# Altium schematic symbol library EL.PLAM.T01.SCHLIB: 67 symbols
Pins are listed as number, name and electrical type; pins without a type are passive.

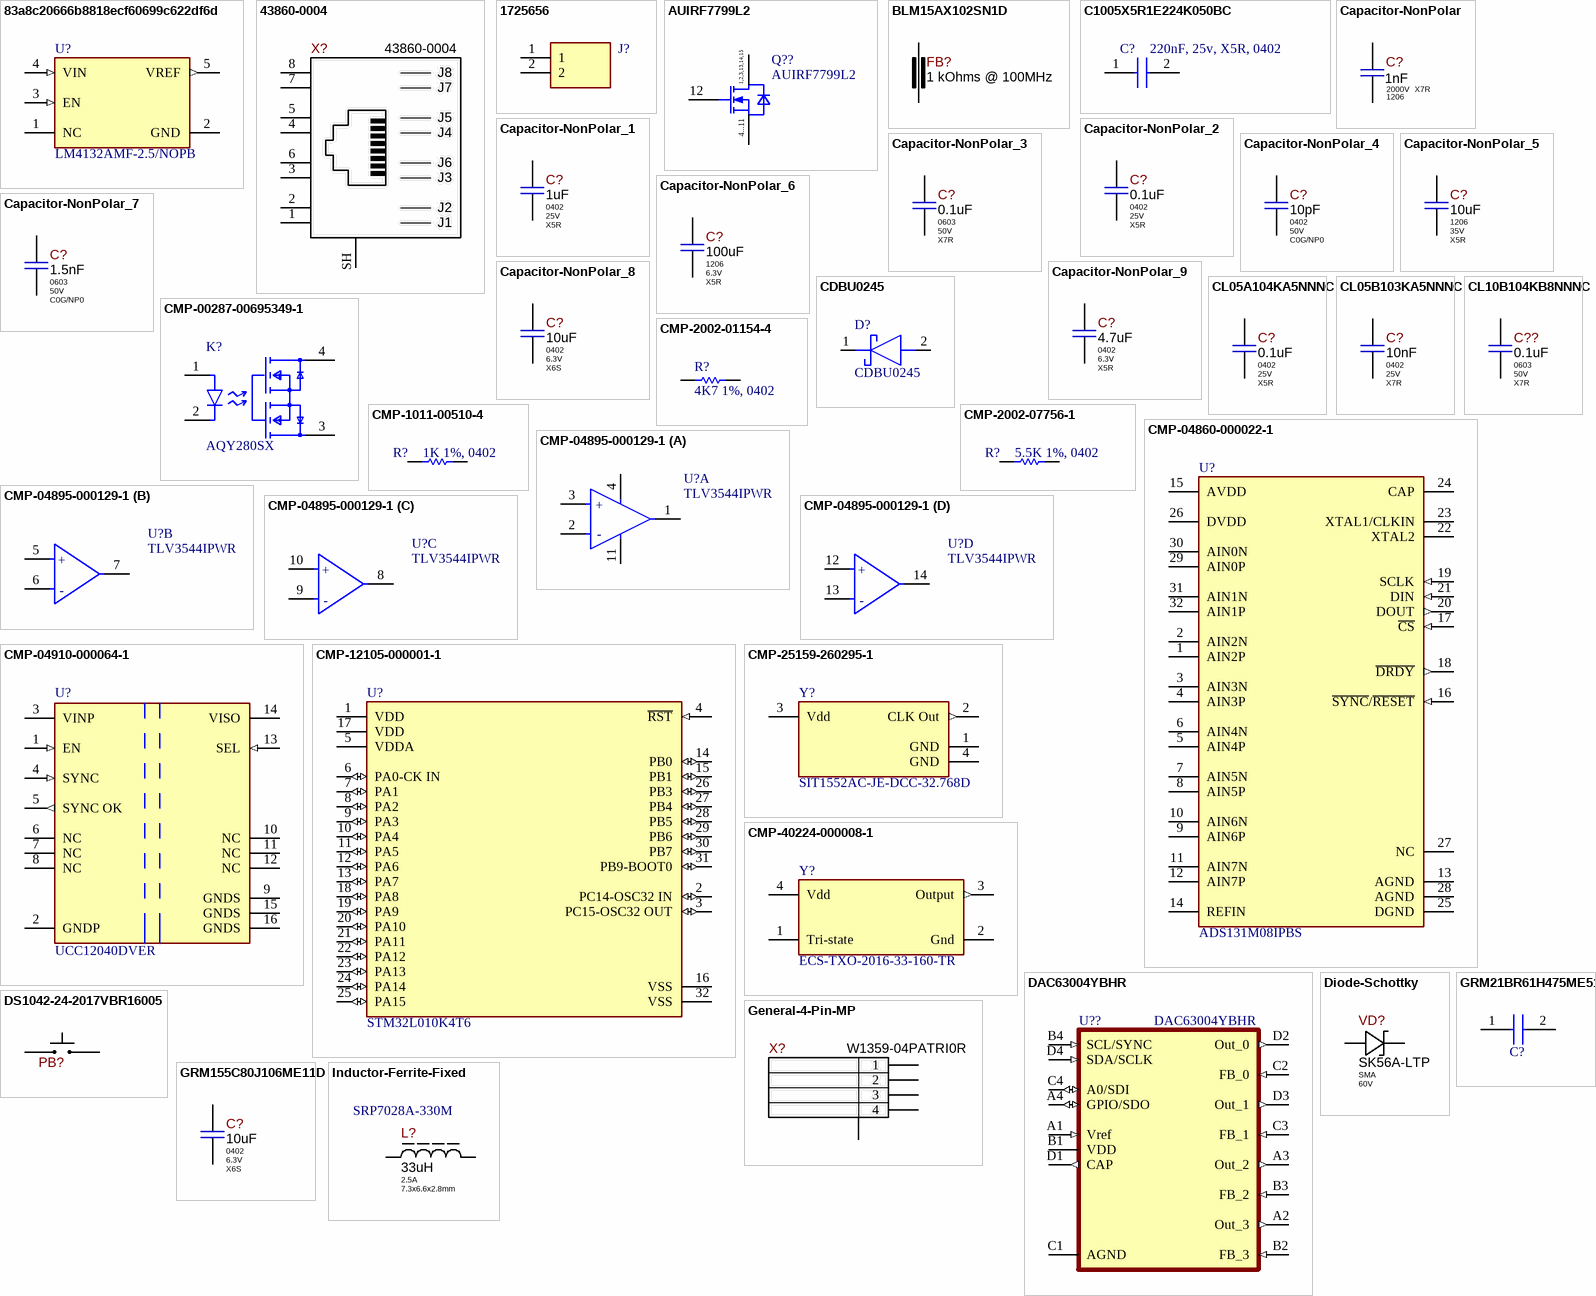
[diagram p0: symbols 83a8c20666b8818ecf60699c622df6d to Inductor-Ferrite-Fixed]

## 83a8c20666b8818ecf60699c622df6d
designator U?, comment LM4132AMF-2.5/NOPB
IC VREF SERIES 0.05% SOT23-5; Quiescent Current: 100uA; Output Current: 20mA; Number of Channels: 1; Temperature Coefficient: 20ppm/°C; Max Input Voltage: 6V; Output Voltage: 2.5V; Max Supply Voltage: 2.2V; Dropout Voltage: 175mV; Supply Current: 60uA; Output Type: Fixed; Length: 2.92mm; Radiation Hardening: No; Reference Type: Series; Mount: Surface Mount; Packaging: Tape and Reel; Width: 1.6mm; Max Operating Temperature: 125°C; Lead Free: Lead Free; Series: -; Number of Pins: 5; REACH SVHC: No SVHC; Max Output Voltage: 2.5V; Package Quantity: 1000; Tolerance: 0.05%; Min Input Voltage: 2.2V; Case/Package: SOT-23; Termination: SMD/SMT; Height: 1.02mm; Min Output Voltage: 2.5V; Reference Voltage: 2.5V; Max Output Current: 20mA; Nominal Supply Current: 60uA; Min Operating Temperature: -40°C; Operating Supply Current: 100uA
footprint FP-DBV0005A-IPC_C
footprint FP-DBV0005A-MFG
footprint FP-DBV0005A-IPC_B
footprint FP-DBV0005A-IPC_A
pins: 1 NC, 2 GND (power), 3 EN (in), 4 VIN (in), 5 VREF (out)

## 43860-0004
designator X?
RJ45 8P8C Shielded Cat 3 10 Base-T Connector; Manufacturer: Molex; Component Status: Released; Replacement: NONE; Part Number: 43860-0004; Part Type: RJ-45; Component Type: PTH; Temperature Range: -40°C ~ 85°C; ComponentLink1URL: https://www.molex.com/pdm_docs/sd/438600004_sd.pdf; Supplier 1: Mouser; Supplier Part Number 1: 538-43860-0004; Price: 2.1435; ComponentLink1Description: Datasheet
footprint 43860-0004
pins: 1 TD4-, 2 TD4+, 3 TD3-, 4 TD3+, 5 CT, 6 CT, 7 TD2-, 8 TD2+, SH Shield
text: J8; J7; J5; J4; J6; J3; J2; J1

## 1725656
designator J?  (value not drawn)
Connector; Manufacturer_Name: Phoenix Contact; Datasheet Link: https://www.phoenixcontact.com/online/portal/us/?uri=pxc-oc-itemdetail:pid=1725656&library=usen&pcck=P-11-01-05&tab=1&selectedCategory=ALL; Height: 8.65mm; Manufacturer_Part_Number: 1725656; Mouser Part Number: 651-1725656; Mouser Price/Stock: https://www.mouser.co.uk/ProductDetail/Phoenix-Contact/1725656?qs=Ul7CXFMnlWWQeccayYbRmw%3D%3D; Arrow Part Number: 1725656; Arrow Price/Stock: https://www.arrow.com/en/products/1725656/phoenix-contact?utm_currency=USD&region=nac
footprint 1725656
pins: 1, 2

## AUIRF7799L2
designator Q??
Insulated-Gate Field-Effect Transistor (IGFET), N-Channel / MOSFETs DirectFET 2 250V 35A 38mOhm Automotive; Part Number: AUIRF7799L2TR; Manufacturer: Infineon; Rds On: 32 mOhm; Qg: 110 nC; Vgs: - 30 V, + 30 V; Vgs th: 4 V; Pd: 125; Max T: 175 C; Turn-On Delay: 36.3 ns; Turn-Off Delay: 73.9 ns; ComponentLink1Description: Datasheet; ComponentLink1URL: https://eu.mouser.com/datasheet/2/196/auirf7799l2-1730908.pdf; Supplier 1: Mouser; Supplier Part Number 1: 942-AUIRF7799L2TR; Product Category: MOSFETs; Transistor Polarity: N-Channel; Mounting Style: SMD/SMT; Package/Case: DirectFET-L8; Vds: 250V; Id: 35A
footprint DIRECTFET-L8-V
pins: 1 DRAIN1, 2 DRAIN2, 3 DRAIN3, 4 SOURCE1, 5 SOURCE2, 6 SOURCE3, 7 SOURCE4, 8 SOURCE5, 9 SOURCE6, 10 SOURCE7, 11 SOURCE8, 12 GATE, 13 DRAIN4, 14 DRAIN5, 15 DRAIN6
text: 1,2,3,13,14,15; 4...11

## BLM15AX102SN1D
designator FB?  value 1 kOhms @ 100MHz  (hidden comment: BLM15AX102SN1D)
1 kOhms @ 100MHz Ferrite Bead 0402, 350mA 490mOhm; Manufacturer: Murata Electronics; Current: 0.35A; Saturation Current: NONE; Tolerance: ±25%; Standard Lead Time: 7 Weeks; Component Status: Released; Package: 0402; Part Number: BLM15AX102SN1D; Part Type: Ferrite Bead; Component Type: SMD; Temperature Range: -55°C ~ 125°C; ComponentLink1URL: https://www.murata.com/en-us/products/productdata/8796740059166/ENFA0018.pdf; Supplier 1: Digi-Key; Supplier Part Number 1: 490-5442-2-ND; Replacement: NONE; Price: 0.00265; ComponentLink1Description: Datasheet
footprint BLM15xxxxxSN1x_MED
footprint BLM15xxxxxSN1x_HI
pins: 1, 2

## C1005X5R1E224K050BC
designator C?, comment 220nF, 25v, X5R, 0402
Capacitor; Manufacturer_Name: TDK; Manufacturer_Part_Number: C1005X5R1E224K050BC; Datasheet Link: https://product.tdk.com/info/en/catalog/datasheets/mlcc_commercial_midvoltage_en.pdf; Height: 0.55mm; Mouser Part Number: 810-C1005X5R1E224K; Mouser Price/Stock: https://www.mouser.co.uk/ProductDetail/TDK/C1005X5R1E224K050BC?qs=dfay7wIA1uF%2FadsrSwyIjA%3D%3D; Arrow Part Number: C1005X5R1E224K050BC; Arrow Price/Stock: https://www.arrow.com/en/products/c1005x5r1e224k050bc/tdk?region=nac
footprint CAPC1005X55N
pins: 1, 2

## Capacitor-NonPolar
designator C?, comment Package: 1206  Voltage: 2000V  Dielectric Type: X7R  (hidden comment: 1nF)
1nF 2000V X7R ±10% 1206 Ceramic Capacitor RoHS; Part Number: CC1206KKX7RDBB102; Manufacturer: Yageo; Replacement: NONE; Value: 1nF; Part Type: Ceramic / X7R / 1206; Component Type: SMD; Temperature Range: -55°C ~ 125°C; Tolerance: ±10%; ComponentLink1URL: https://www.yageo.com/upload/media/product/products/datasheet/mlcc/UPY-NP0X7R_HV_1KV-to-3KV_11.pdf; Supplier 1: Digi-Key; Supplier Part Number 1: 311-1487-2-ND; ComponentLink1Description: Datasheet
footprint CAP-1206(3216)X125T20
pins: 1, 2

## Capacitor-NonPolar_1
designator C?, comment Package: 0402  Voltage: 25V  Dielectric Type: X5R  (hidden comment: 1uF)
1uF 25V Х5R ±10% 0402 Ceramic Capacitor RoHS; Part Number: GRM155R61E105KA12D; Manufacturer: Murata Electronics; Standard Lead Time: 15 Weeks; Component Status: Released; Replacement: NONE; Value: 1uF; Part Type: Ceramic / X5R / 0402; Component Type: SMD; Temperature Range: -55°C ~ 85°C; Tolerance: ±10%; ComponentLink1URL: https://search.murata.co.jp/Ceramy/image/img/A01X/G101/ENG/GRM155R61E105KA12-01.pdf; Supplier 1: Digi-Key; Supplier Part Number 1: 490-10017-1-ND; Price: 0.0033; ComponentLink1Description: Datasheet
footprint C_CERAMIC_0402_MED
footprint C_CERAMIC_0402_HI
pins: 1, 2

## Capacitor-NonPolar_2
designator C?, comment Package: 0402  Voltage: 25V  Dielectric Type: X5R  (hidden comment: 0.1uF)
100nF 25V X5R ±10% 0402 Ceramic Capacitor RoHS; Part Number: CL05A104KA5NNNC; Manufacturer: Samsung Electro-Mechanics; Ajax_1C_ID: 27170; Ajax_1C_PN: 100nF 25V X5R 10% 0402 CL05A104KA5NNNC Ceramic Capacitor SMD RoHS; Standard Lead Time: 38 Weeks; Replacement: NONE; Ajax_1С_Status: Mass Production; Component Status: Released; GUID_1C: 6c9121f0-7733-11eb-ab70-0050569f2651; Value: 0.1uF; Part Type: Ceramic / X5R / 0402; Component Type: SMD; Temperature Range: -55°C ~ 85°C; Tolerance: ±10%; ComponentLink1URL: https://eu.mouser.com/datasheet/2/585/MLCC-1837944.pdf; Supplier 1: Mouser; Supplier Part Number 1: 187-CL05A104KA5NNNC; ComponentLink1Description: Datasheet; Price: 0.0013
footprint C_CERAMIC_0402_MED
footprint C_CERAMIC_0402_HI
pins: 1, 2

## Capacitor-NonPolar_3
designator C?, comment Package: 0603  Voltage: 50V  Dielectric Type: X7R  (hidden comment: 0.1uF)
100nF 50V X7R ±10% 0603 Ceramic Capacitor RoHS; Part Number: CL10B104KB8NNNC; Manufacturer: Samsung Electro-Mechanics; Standard Lead Time: 18 Weeks; Replacement: CL10B104KB8NNND; Component Status: Released; Value: 0.1uF; Part Type: Ceramic / X7R / 0603; Component Type: SMD; Temperature Range: -55°C ~ 125°C; Tolerance: ±10%; ComponentLink1URL: https://media.digikey.com/pdf/Data%20Sheets/Samsung%20PDFs/CL_Series_MLCC_ds.pdf; Supplier 1: Digi-Key; Supplier Part Number 1: 1276-1000-2-ND; ComponentLink1Description: Datasheet; Price: 0.00273
footprint C_CERAMIC_0603_MED
footprint C_CERAMIC_0603_HI
pins: 1, 2

## Capacitor-NonPolar_4
designator C?, comment Package: 0402  Voltage: 50V  Dielectric Type: C0G/NP0  (hidden comment: 10pF)
10pF 50V C0G ±5% 0402 Ceramic Capacitor RoHS; Part Number: CL05C100JB5NNNC; Manufacturer: Samsung Electro-Mechanics; Standard Lead Time: 28 Weeks; Replacement: NONE; Component Status: Released; Value: 10pF; Part Type: Ceramic / C0G(NP0) / 0402; Component Type: SMD; Temperature Range: -55°C ~ 125°C; Tolerance: ±5%; ComponentLink1URL: https://media.digikey.com/pdf/Data%20Sheets/Samsung%20PDFs/CL_Series_MLCC_ds.pdf; Supplier 1: Digi-Key; Supplier Part Number 1: 1276-1139-2-ND; ComponentLink1Description: Datasheet; Price: 0.00145
footprint C_CERAMIC_0402_MED
footprint C_CERAMIC_0402_HI
pins: 1, 2

## Capacitor-NonPolar_5
designator C?, comment Package: 1206  Voltage: 35V  Dielectric Type: X5R  (hidden comment: 10uF)
10uF 35V X5R ±10% 1206 Ceramic Capacitor RoHS; Part Number: GRM319R6YA106KA12D; Manufacturer: Murata Electronics; Standard Lead Time: NONE; Component Status: Released; Value: 10uF; Part Type: Ceramic / X5R / 1206; Component Type: SMD; Temperature Range: -55°C ~ 85°C; Tolerance: ±10%; ComponentLink1URL: https://search.murata.co.jp/Ceramy/image/img/A01X/G101/ENG/GRM319R6YA106KA12-01.pdf; Supplier 1: Digi-Key; Supplier Part Number 1: 490-9964-1-ND; Replacement: NONE; ComponentLink1Description: Datasheet; Price: 0.03648
footprint CAP-1206(3216)X85T15
pins: 1, 2

## Capacitor-NonPolar_6
designator C?, comment Package: 1206  Voltage: 6.3V  Dielectric Type: X5R  (hidden comment: 100uF)
100uF 6.3V X5R ±20% 1206 Ceramic Capacitor RoHS; Part Number: CL31A107MQHNNNE; Manufacturer: Samsung Electro-Mechanics; Standard Lead Time: 22 Weeks; Replacement: NONE; Component Status: Released; Value: 100uF; Part Type: Ceramic / X5R / 1206; Component Type: SMD; Temperature Range: -55°C ~ 85°C; Tolerance: ±20%; ComponentLink1URL: https://media.digikey.com/pdf/Data%20Sheets/Samsung%20PDFs/CL_Series_MLCC_ds.pdf; Supplier 1: Digi-Key; Supplier Part Number 1: 1276-1782-2-ND; ComponentLink1Description: Datasheet; Price: 0,05600243
footprint C_CERAMIC_1206_MED
footprint C_CERAMIC_1206_HI
pins: 1, 2

## Capacitor-NonPolar_7
designator C?, comment Package: 0603  Voltage: 50V  Dielectric Type: C0G/NP0  (hidden comment: 1.5nF)
1.5nF 50V C0G(NP0) ±5% 0603 Ceramic Capacitor RoHS; Part Number: GRM1885C1H152JA01D; Manufacturer: Murata Electronics; Standard Lead Time: 22 Weeks; Component Status: Released; Replacement: NONE; Value: 1.5nF; Part Type: Ceramic / C0G(NP0) / 0603; Component Type: SMD; Temperature Range: -55°C ~ 125°C; Tolerance: ±5%; ComponentLink1URL: https://eu.mouser.com/datasheet/2/281/1/GRM1885C1H152JA01_01A-1984714.pdf; Supplier 1: Mouser; Supplier Part Number 1: 81-GRM1885C1H152JA01; Price: 0.00446; ComponentLink1Description: Datasheet
footprint C_CERAMIC_0603_MED
footprint C_CERAMIC_0603_HI
pins: 1, 2

## Capacitor-NonPolar_8
designator C?, comment Package: 0402  Voltage: 6.3V  Dielectric Type: X6S  (hidden comment: 10uF)
10uF 6.3V X6S ±20% 0402 Ceramic Capacitor RoHS; Part Number: GRM155C80J106ME11D; Manufacturer: Murata Electronics; Component Status: Released; Standard Lead Time: 15 Weeks; Replacement: NONE; Value: 10uF; Part Type: Ceramic / X6S / 0402; Component Type: SMD; Temperature Range: -55°C ~ 105°C; Tolerance: ±20%; ComponentLink1URL: https://search.murata.co.jp/Ceramy/image/img/A01X/G101/ENG/GRM155C80J106ME11-01.pdf; Supplier 1: Digi-Key; Supplier Part Number 1: 490-13233-1-ND; Price: 0.01104; ComponentLink1Description: Datasheet
footprint C_CERAMIC_0402_MED
footprint C_CERAMIC_0402_HI
pins: 1, 2

## Capacitor-NonPolar_9
designator C?, comment Package: 0402  Voltage: 6.3V  Dielectric Type: X5R  (hidden comment: 4.7uF)
4.7uF 6.3V X5R ±20% 0402 Ceramic Capacitor RoHS; Part Number: GRM155R60J475ME47; Manufacturer: Murata Electronics; Component Status: Released; Standard Lead Time: 15 Weeks; Replacement: CC0402MRX5R5BB475; Value: 4.7uF; Part Type: Ceramic / X5R / 0402; Component Type: SMD; Temperature Range: -55°C ~ 85°C; Tolerance: ±20%; ComponentLink1URL: https://search.murata.co.jp/Ceramy/image/img/A01X/G101/ENG/GRM155R60J475ME47-01.pdf; Supplier 1: Digi-Key; Supplier Part Number 1: 490-5915-2-ND; Price: 0.013; ComponentLink1Description: Datasheet
footprint C_CERAMIC_0402_MED
footprint C_CERAMIC_0402_HI
pins: 1, 2

## CDBU0245
designator D?
Schottky Diode; Manufacturer_Name: Comchip Technology; Datasheet Link: https://componentsearchengine.com/Datasheets/1/CDBU0245.pdf; Height: 0.85mm; Manufacturer_Part_Number: CDBU0245; Mouser Part Number: 750-CDBU0245; Mouser Price/Stock: https://www.mouser.co.uk/ProductDetail/Comchip-Technology/CDBU0245?qs=tw%252BuQ%2FB6PO2XscGM2Q%2FbYQ%3D%3D; Arrow Part Number: CDBU0245; Arrow Price/Stock: https://www.arrow.com/en/products/cdbu0245/comchip-technology?utm_currency=USD&region=nac
footprint DIOC1709X85N
pins: 1 K, 2 A

## CL05A104KA5NNNC
designator C?, comment Package: 0402  Voltage: 25V  Dielectric Type: X5R  (hidden comment: 0.1uF)
100nF 25V X5R ±10% 0402 Ceramic Capacitor RoHS; Part Number: CL05A104KA5NNNC; Manufacturer: Samsung Electro-Mechanics; Standard Lead Time: 38 Weeks; Replacement: NONE; Component Status: Released; Value: 0.1uF; Part Type: Ceramic / X5R / 0402; Component Type: SMD; Temperature Range: -55°C ~ 85°C; Tolerance: ±10%; ComponentLink1URL: https://eu.mouser.com/datasheet/2/585/MLCC-1837944.pdf; Supplier 1: Mouser; Supplier Part Number 1: 187-CL05A104KA5NNNC; ComponentLink1Description: Datasheet; Price: 0.0013
footprint C_CERAMIC_0402_MED
footprint C_CERAMIC_0402_HI
pins: 1, 2

## CL05B103KA5NNNC
designator C?, comment Package: 0402  Voltage: 25V  Dielectric Type: X7R  (hidden comment: 10nF)
10nF 25V X7R ±10% 0402 Ceramic Capacitor RoHS; Part Number: CL05B103KA5NNNC; Manufacturer: Samsung Electro-Mechanics; Component Status: Released; Standard Lead Time: 28 Weeks; Replacement: NONE; Value: 10nF; Part Type: Ceramic / X7R / 0402; Component Type: SMD; Temperature Range: -55°C ~ 125°C; Tolerance: ±10%; ComponentLink1URL: https://eu.mouser.com/datasheet/2/585/MLCC-1837944.pdf; Supplier 1: Mouser; Supplier Part Number 1: 187-CL05B103KA5NNNC; Price: 0.00145; ComponentLink1Description: Datasheet
footprint C_CERAMIC_0402_MED
footprint C_CERAMIC_0402_HI
pins: 1, 2

## CL10B104KB8NNNC
designator C??, comment Package: 0603  Voltage: 50V  Dielectric Type: X7R  (hidden comment: 0.1uF)
100nF 50V X7R ±10% 0603 Ceramic Capacitor RoHS; Part Number: CL10B104KB8NNNC; Manufacturer: Samsung Electro-Mechanics; Standard Lead Time: 18 Weeks; Replacement: CL10B104KB8NNND; Component Status: Released; Part Type: Ceramic / X7R / 0603; Component Type: SMD; Temperature Range: -55°C ~ 125°C; Tolerance: ±10%; ComponentLink1URL: https://media.digikey.com/pdf/Data%20Sheets/Samsung%20PDFs/CL_Series_MLCC_ds.pdf; Supplier 1: Digi-Key; Supplier Part Number 1: 1276-1000-2-ND; ComponentLink1Description: Datasheet; Price: 0.00273; Value: 0.1uF
footprint C_CERAMIC_0603_MED
footprint C_CERAMIC_0603_HI
pins: 1, 2

## CMP-00287-00695349-1
designator K?, comment AQY280SX
AQY280SX AQY Photomos Series 120 mA 350 V 25 Ohm SMT 1 Channel Solid State Relay -SOP-4; NexarPartId: 695349; Output Current: 120mA; Throw Configuration: DPST, SPST; Resistance: 25Ω; Max Input Current: 50mA; Max Output Voltage: 350V; Isolation Voltage: 1.5kV; Termination: Gull Wing; Number of Pins: 4; Max Output Current: 120mA; RoHS: Compliant; Mount: Surface Mount; Radiation Hardening: No; Max Operating Temperature: 85°C; Height: 2.1mm; Case/Package: SOP; Forward Current: 50mA; Input Current: 50mA; Lead Free: Lead Free; Length: 4.4mm; Width: 4.3mm; Min Operating Temperature: -40°C; Output Voltage: 350V; Relay Type: Relay; Load Current: 120mA; Part Number: AQY280SX; Supplier 1: Mouser; Supplier Part Number 1: 769-AQY280SX
footprint FP-AQY280SX-MFG (AQY Photomos Series 120 mA 350 V 25 Ohm SMT 1 Channel Solid State Relay -SOP-4)
pins: 1 A, 2 C, 3 1 DRAIN, 4 2 DRAIN

## CMP-1011-00510-4
designator R?, comment 1K 1%, 0402
Chip Resistor, 1 KOhm, +/- 1%, 100 mW, -55 to 155 degC, 0402 (1005 Metric), RoHS, Tape and Reel; PartNumber: ERJ-2RKF1001X; Manufacturer: Basic Passives; Voltage Rating: 50 V; Case\/Package: 0402; Resistance: 1 KOhm; Power Rating: 100 mW; DatasheetVersion: 04/2015; Radiation Hardening: No; Pins: 2; Height: 0.35 mm; RoHSCompliant: true; Case Code (Imperial): 0402; ComponentLink2Description: Datasheet; ComponentLink1Description: Manufacturer URL; PackageReference: 0402; Mount: Surface Mount; Package Quantity: 10000; Tolerance: 1%; ComponentLink1URL: http://www.panasonic.com/; PackageDescription: 2-Pin Surface Mount Device, Body 1 x 0.5 mm; Mounting Technology: Surface Mount; Case Code (Metric): 1005; ComponentLink2URL: http://industrial.panasonic.com/cdbs/www-data/pdf/RDA0000/AOA0000C86.pdf; REACH SVHC: Yes; Packaging: Tape and Reel; Max Operating Temperature: 155 degC; Min Operating Temperature: -55 degC; Width: 0.5 mm; Length: 1 mm
footprint RESC1005X40X25NL05T05 (Chip Resistor, 2-Leads, Body 1.05x0.55mm, IPC Medium Density)
footprint RESC1005X40X25LL05T05 (Chip Resistor, 2-Leads, Body 1.05x0.55mm, IPC High Density)
footprint RESC1005X40X25ML05T05 (Chip Resistor, 2-Leads, Body 1.05x0.55mm, IPC Low Density)
pins: 1, 2

## CMP-2002-01154-4
designator R?, comment 4K7 1%, 0402
Chip Resistor, 4.7 KOhm, +/- 1%, 0.1 W, -55 to 155 degC, 0402 (1005 Metric), RoHS, Tape and Reel; PartNumber: ERJ-2RKF4701X; Voltage Rating: 50 V; Case\/Package: 0402; Power Rating: 100 mW; Height: 0.35 mm; Mounting Technology: Surface Mount; REACH SVHC: Yes; Resistance: 4.7 KOhm; Max Operating Temperature: 155 degC; ComponentLink1Description: Manufacturer URL; ComponentLink2Description: Datasheet; Pins: 2; PackageReference: 0402; Tolerance: 1%; Case Code (Imperial): 0402; Length: 1 mm; PackageDescription: 2-Pin Surface Mount Device, Body 1 x 0.5 mm; RoHSCompliant: true; Package Quantity: 1; Radiation Hardening: No; DatasheetVersion: 04/2015; Width: 0.5 mm; Case Code (Metric): 1005; Mount: Surface Mount; ComponentLink1URL: http://www.panasonic.com/; Min Operating Temperature: -55 degC; Packaging: Cut Tape; ComponentLink2URL: http://industrial.panasonic.com/cdbs/www-data/pdf/RDA0000/AOA0000C86.pdf
footprint RESC1005X40X25LL05T05 (Chip Resistor, 2-Leads, Body 1.05x0.55mm, IPC High Density)
footprint RESC1005X40X25ML05T05 (Chip Resistor, 2-Leads, Body 1.05x0.55mm, IPC Low Density)
footprint RESC1005X40X25NL05T05 (Chip Resistor, 2-Leads, Body 1.05x0.55mm, IPC Medium Density)
pins: 1, 2

## CMP-2002-07756-1
designator R?, comment 5.5K 1%, 0402
Part Number: RC0402FR-075K6L; Manufacturer: Yageo / Phycomp
footprint RESC1005X40X25LL05T10 (Chip Resistor, 2-Leads, Body 1.00x0.50mm, IPC High Density)
footprint RESC1005X40X25ML05T10 (Chip Resistor, 2-Leads, Body 1.00x0.50mm, IPC Low Density)
footprint RESC1005X40X25NL05T10 (Chip Resistor, 2-Leads, Body 1.00x0.50mm, IPC Medium Density)
pins: 1, 2
1 alternate drawing of the same symbol

## CMP-04860-000022-1
designator U?, comment ADS131M08IPBS
8 CHANNEL 24 BIT SIMULTANEOUS SA
footprint FP-PBS0032A-MFG
footprint FP-PBS0032A-IPC_C
footprint FP-PBS0032A-IPC_A
footprint FP-PBS0032A-IPC_B
pins: 1 AIN2P, 2 AIN2N, 3 AIN3N, 4 AIN3P, 5 AIN4P, 6 AIN4N, 7 AIN5N, 8 AIN5P, 9 AIN6P, 10 AIN6N, 11 AIN7N, 12 AIN7P, 13 AGND (power), 14 REFIN, 15 AVDD (power), 16 ~{SYNC}/~{RESET} (in), 17 ~{CS} (in), 18 ~{DRDY} (out), 19 SCLK (in), 20 DOUT (out), 21 DIN (in), 22 XTAL2, 23 XTAL1/CLKIN, 24 CAP, 25 DGND (power), 26 DVDD (power), 27 NC, 28 AGND (power), 29 AIN0P, 30 AIN0N, 31 AIN1N, 32 AIN1P

## CMP-04895-000129-1
designator U?, comment TLV3544IPWR
IC CMOS 4 CIRCUIT 14TSSOP; Output Current per Channel: 100mA; Input Offset Voltage (Vos): 2mV; -3db Bandwidth: 200MHz; Number of Circuits: 4; Operating Supply Current: 5.2mA; Input Bias Current: 3pA; Gain Bandwidth Product: 100MHz; Slew Rate: 150V/µs; Number of Channels: 4; Max Operating Temperature: 125°C; Min Operating Temperature: -40°C; RoHS Compliant: Yes; Number of Pins: 14; Case/Package: TSSOP; Mount: Surface Mount; Packaging: Cut Tape
footprint FP-PW0014A-IPC_B
footprint FP-PW0014A-IPC_A
footprint FP-PW0014A-IPC_C
footprint FP-PW0014A-MFG
part A pins: 1 OUT A, 2 -IN A (hiz), 3 +IN A (hiz), 4 V+ (power), 11 V- (power)
part B pins: 5 +IN B (hiz), 6 -IN B (hiz), 7 OUT B
part C pins: 8 OUT C, 9 -IN C (hiz), 10 +IN C (hiz)
part D pins: 12 +IN D (hiz), 13 -IN D (hiz), 14 OUT D
part A text: +; -
part B text: +; -
part C text: +; -
part D text: +; -

## CMP-04910-000064-1
designator U?, comment UCC12040DVER
DC DC CONVERTER 5V 500mW; Number of Outputs: 1; Input Voltage - Min: 4.5V; Input Voltage - Max: 5.5V; Isolation Voltage: 3 kV; Unit Weight: 5 g; Part Number: UCC12040DVER; Supplier 1: Mouser; Supplier Part Number 1: 595-UCC12040DVER; Mounting Style: SMD/SMT; ComponentLink1Description: Datasheet; ComponentLink1URL: https://www.ti.com/lit/ds/symlink/ucc12040.pdf?ts=1755529908774&ref_url=https%253A%252F%252Fwww.ti.com%252Fproduct%252FUCC12040; Output Power: 500 mW; Input Voltage, Nominal: 5V; Package/Case: SOIC-16; Product Type: Isolated DC-DC Converters; Subcategory: DC-DC Converters
footprint FP-DVE0016A-MFG
footprint FP-DVE0016A-IPC_C
footprint FP-DVE0016A-IPC_B
footprint FP-DVE0016A-IPC_A
pins: 1 EN (in), 2 GNDP (power), 3 VINP (power), 4 SYNC (in), 5 SYNC OK (out), 6 NC, 7 NC, 8 NC, 9 GNDS (power), 10 NC, 11 NC, 12 NC, 13 SEL (in), 14 VISO (power), 15 GNDS (power), 16 GNDS (power)

## CMP-12105-000001-1
designator U?, comment STM32L010K4T6
16/32-BITS MICROS; Manufacturer: STMicroelectronics; Number Of Cores: 1; Core Architecture: ARM Cortex-M0+; Number Of Adc Channels: 10; Data Bus Width: 32bits; Frequency: 32MHz; Number Of I/Os: 26; Memory Size: 16KBytes; Max Junction Temp: +105°C; Memory Type: FLASH; Number Of Uart Channels: 2; Ram Size: 2KBytes; Number Of Timers/Counters: 5; Nominal Supply Current: 22-5400uA; Interface: I2C,SPI,UART,USART,SMBus; Min Supply Voltage: 1.8V; Max Supply Voltage: 3.6V; Standoff Height: 0.05mm; ComponentLink2Description: Datasheet; Temperature Range High: +85°C; Device Class L2: Embedded Processors and Controllers; Package: LQFP32-5V; Manufacturer Part Number: STM32L010K4T6; Ambient Temperature Range Low: -40°C; RoHS: TRUE; Digikey Description: 16/32-BITS MICROS; Lead Free: Yes; Category: IC; Height: 1.6mm; ComponentLink2URL: https://www.st.com/resource/en/datasheet/stm32l010f4.pdf; Temperature Range Low: -40°C; Automotive: No; Device Class L3: Microcontrollers; Device Class L1: Integrated Circuits (ICs); Octopart: https://octopart.com/stm32l010k4t6-stmicroelectronics-96493833; Temperature: -40°C to +85°C; Number Of Spi Channels: 1; Number Of I2C Channels: 1; Ambient Temperature Range High: +85°C; Number Of A/D Converters: 1; Part Number: STM32L010K4T6; Supplier 1: Mouser; Supplier Part Number 1: 511-STM32L010K4T6
footprint FP-LQFP32-5V-MFG
footprint FP-LQFP32-5V-IPC_C
footprint FP-LQFP32-5V-IPC_B
footprint FP-LQFP32-5V-IPC_A
pins: 1 VDD (power), 2 PC14-OSC32 IN (io), 3 PC15-OSC32 OUT (io), 4 ~{RST} (in), 5 VDDA (power), 6 PA0-CK IN (io), 7 PA1 (io), 8 PA2 (io), 9 PA3 (io), 10 PA4 (io), 11 PA5 (io), 12 PA6 (io), 13 PA7 (io), 14 PB0 (io), 15 PB1 (io), 16 VSS (power), 17 VDD (power), 18 PA8 (io), 19 PA9 (io), 20 PA10 (io), 21 PA11 (io), 22 PA12 (io), 23 PA13 (io), 24 PA14 (io), 25 PA15 (io), 26 PB3 (io), 27 PB4 (io), 28 PB5 (io), 29 PB6 (io), 30 PB7 (io), 31 PB9-BOOT0 (io), 32 VSS (power)

## CMP-25159-260295-1
designator Y?, comment SIT1552AC-JE-DCC-32.768D
MEMS OSC TCXO 32.7680KHZ LVCMOS; Frequency Stability: 5ppm; Frequency: 32.768kHz; Min Operating Temperature: 0°C; Length: 0.061inch; Mount: Surface Mount; Max Operating Temperature: 70°C; Width: 0.033inch; RoHS Compliant: Yes; Series: SiT1552; Packaging: Cut Tape; Height: 0.024inch; ComponentLink1Description: Datasheet; ComponentLink1URL: https://eu.mouser.com/datasheet/2/371/SiT1552_datasheet-1511133.pdf; Part Number: SIT1552AC-JE-DCC-32.768D; Supplier 1: Mouser; Supplier Part Number 1: 788-1552ACJEDCC32.7D
footprint FP-SiT1552-J-MFG
pins: 1 GND (power), 2 CLK Out (out), 3 Vdd (power), 4 GND (power)

## CMP-40224-000008-1
designator Y?, comment ECS-TXO-2016-33-160-TR
XTAL OSC TCXO 16MHZ 3.3V SMD; Manufacturer: ECS; Max Supply Voltage: 3.63V; Max Supply Current: 7mA; Stability: 2ppm; Min Supply Voltage: 2.97V; Load Capacitance: 15pF; Frequency: 16MHz; Device Class L1: Passive Components; Manufacturer Part Number: ECS-TXO-2016-33-160-TR; Digikey Description: XTAL OSC TCXO 16MHZ 3.3V SMD; Device Class L3: Oscillators; Category: Crys; Lead Free: Yes; Temperature: -40°C to +85°C; RoHS: TRUE; ComponentLink2Description: Datasheet; Octopart: https://octopart.com/ecs-txo-2016-33-160-tr-ecs+international-102811109; ComponentLink2URL: https://ecsxtal.com/store/pdf/ECS-TXO-2016.pdf; Temperature Range High: +85°C; Height: 0.8mm; Device Class L2: Crystals / Oscillators; Package: TXO-2016; Temperature Range Low: -40°C; Series: TXO-2016; Automotive: No; Part Number: ECS-TXO-2016-33-160-TR; Supplier 1: Mouser; Supplier Part Number 1: 520-TXO-2016-33-160T
footprint FP-TXO-2016-MFG
pins: 1 Tri-state, 2 Gnd (power), 3 Output (out), 4 Vdd (power)

## DAC63004YBHR
designator U??
Digital to Analog Converters - DAC Ultra-low-power four -channel 12-bit smar; Resolution: 12 bit; Number of Channels: 4 Channel; Settling Time: 25 us; Output Type: Current, Voltage; Interface Type: I2C, SPI; Supply Voltage - Max: 5.5 V; Supply Voltage - Min: 1.8 V; Part Number: DAC63004YBHR; Supplier 1: Mouser; Supplier Part Number 1: 595-DAC63004YBHR; ComponentLink1Description: Datasheet; ComponentLink1URL: https://www.ti.com/lit/ds/symlink/dac53004w.pdf?ts=1756086251058&ref_url=https%253A%252F%252Fwww.ti.com%252Fproduct%252FDAC53004W; Mounting Style: SMD/SMT; Package/Case: DSBGA-16; Product: Digital to Analog Converters; Product Type: DACs - Digital to Analog Converters; Subcategory: Data Converter ICs; Price, max: 4,74 €; Price, min: 2,65 €
footprint BGA16C50P4X4_200X200X60
pins: A1 Vref (in), A2 Out_3 (out), A3 Out_2 (out), A4 GPIO/SDO (io), B1 VDD (power), B2 FB_3 (in), B3 FB_2 (in), B4 SCL/SYNC (in), C1 AGND (power), C2 FB_0 (in), C3 FB_1 (in), C4 A0/SDI  (io), D1 CAP (out), D2 Out_0 (out), D3 Out_1 (out), D4 SDA/SCLK (in)

## Diode-Schottky
designator VD?, comment Package: SMA  Voltage: 60V  (hidden comment: SK56A-LTP)
Diode Schottky 60V 5A, SMA; Manufacturer: Micro Commercial Components; Marking: SK56A; Standard Lead Time: 12 Weeks; Vf: 750mV @ 5A; Replacement: NONE; Component Status: Released; Part Number: SK56A-LTP; Part Type: Schottky; Component Type: SMD; Current: 5A; Temperature Range: -55°C ~ 150°C; ComponentLink1URL: \\altiumdb.ajax.local\files\Datasheet\Diodes\SK52A-L-SK510A-L(DO-214AC).pdf; Supplier 1: Digi-Key; Supplier Part Number 1: SK56A-LTPMSTR-ND; ComponentLink1Description: Datasheet; Price: 0.06
footprint SMA_MED
footprint SMA_HI
pins: AN, CA

## DS1042-24-2017VBR16005
designator PB?  (value not drawn)
Tactile Switch 2.5x3mm, SMD, 160gf, Height 1.7mm, 50mA 12VDC; Manufacturer: Connfly; Replacement: NONE; Part Number: DS1042-24-2017VBR16005; Part Type: Switch / Tactile; Component Type: SMD; Temperature Range: -20°C ~ 70°C
footprint DS1042-24-2017VB
pins: 1, 2

## General-4-Pin-MP
designator X?, comment W1359-04PATRI0R
1.25mm Wire-to-Board Header, Vertical, SMT, 4 pin; Manufacturer: Hsuan Mao Technology; Component Status: Released; Replacement: 53398-0471; Part Number: W1359-04PATRI0R; Part Type: Wire-to-Board / 1.25mm; Component Type: SMD; Temperature Range: -40°C ~ 85°C; Price: 0.06
footprint W1359-04PATXI0R_REC
footprint W1359-04PATXI0R_DBG
pins: 1, 2, 3, 4, MP MountPad

## GRM21BR61H475ME51L
designator C?, comment 4.7uF, 50V, X5R, 0805  (value not drawn)
Capacitor; Manufacturer_Name: Murata Electronics; Manufacturer_Part_Number: GRM21BR61H475ME51L; Datasheet Link: https://search.murata.co.jp/Ceramy/image/img/A01X/G101/ENG/GRM21BR61H475ME51-01A.pdf; Height: 1.45mm; Mouser Part Number: 81-GRM21BR61H475M51L; Mouser Price/Stock: https://www.mouser.co.uk/ProductDetail/Murata-Electronics/GRM21BR61H475ME51L?qs=eeBpzGFlv%252B%2Fg0wAeHy0eJw%3D%3D; Arrow Part Number: GRM21BR61H475ME51L; Arrow Price/Stock: https://www.arrow.com/en/products/grm21br61h475me51l/murata-manufacturing?region=nac
footprint CAPC2012X145N
pins: 1, 2

## GRM155C80J106ME11D
designator C?, comment Package: 0402  Voltage: 6.3V  Dielectric Type: X6S  (hidden comment: 10uF)
10uF 6.3V X6S ±20% 0402 Ceramic Capacitor RoHS; Part Number: GRM155C80J106ME11D; Manufacturer: Murata Electronics; Component Status: Released; Standard Lead Time: 15 Weeks; Replacement: NONE; Value: 10uF; Part Type: Ceramic / X6S / 0402; Component Type: SMD; Temperature Range: -55°C ~ 105°C; Tolerance: ±20%; ComponentLink1URL: https://search.murata.co.jp/Ceramy/image/img/A01X/G101/ENG/GRM155C80J106ME11-01.pdf; Supplier 1: Digi-Key; Supplier Part Number 1: 490-13233-1-ND; Price: 0.01104; ComponentLink1Description: Datasheet
footprint C_CERAMIC_0402_MED
footprint C_CERAMIC_0402_HI
pins: 1, 2

## Inductor-Ferrite-Fixed
designator L?, comment Current: 2.5A  Package: 7.3x6.6x2.8mm  Part Number: SRP7028A-330M  (hidden comment: 33uH)
33uH Shielded Wirewound Power Inductor 2.5A 240mOhm Max; Manufacturer: Bourns Inc; Tolerance: ±20%; Component Status: Released; Standard Lead Time: 24 Weeks; Replacement: NONE; Value: 33uH; Part Type: Power / Ferrite Core; Saturation Current: 2.5A; Component Type: SMD; Temperature Range: -40°C ~ 150°C; ComponentLink1URL: https://eu.mouser.com/datasheet/2/54/srp7028a-1391359.pdf; Supplier 1: Mouser; Supplier Part Number 1: 652-SRP7028A-330M; Price: 0.807; ComponentLink1Description: Datasheet
footprint SRP7028A-Series
pins: 1, 2

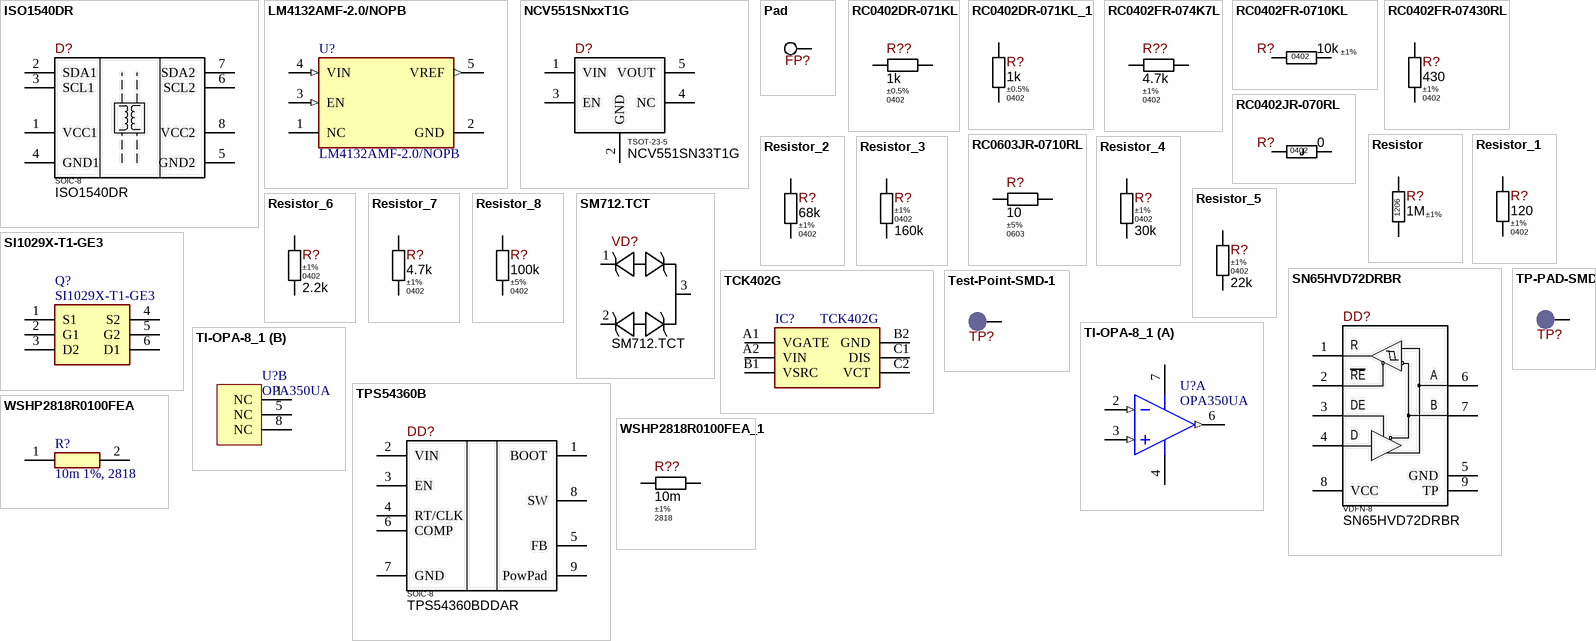
[diagram p1: symbols ISO1540DR to WSHP2818R0100FEA_1]

## ISO1540DR
designator D?  Package: SOIC-8  (hidden comment: ISO1540DR)
I2C Digital Isolator 2500Vrms 2 Channel 1Mbps 25kV/us, SOIC-8; Manufacturer: Texas Instruments; Standard Lead Time: 8 Weeks; Replacement: ADUM1250ARZ; Part Number: ISO1540DR; Part Type: Isolator; Component Type: SMD; Temperature Range: -40°C ~ 125°C; ComponentLink1URL: https://www.ti.com/lit/ds/symlink/iso1540.pdf; Supplier 1: Digi-Key; Supplier Part Number 1: 296-34871-2-ND; Price: 1,4064; ComponentLink1Description: Datasheet
footprint SOIC-8_W3.9MM
pins: 1 VCC1, 2 SDA1, 3 SCL1, 4 GND1, 5 GND2, 6 SCL2, 7 SDA2, 8 VCC2

## LM4132AMF-2.0/NOPB
designator U?
IC VREF SERIES 0.05% SOT23-5; Quiescent Current: 100uA; Output Current: 20mA; Number of Channels: 1; Temperature Coefficient: 20ppm/°C; Max Input Voltage: 6V; Output Voltage: 2.5V; Max Supply Voltage: 2.2V; Dropout Voltage: 175mV; Supply Current: 60uA; Output Type: Fixed; Length: 2.92mm; Radiation Hardening: No; Reference Type: Series; Mount: Surface Mount; Packaging: Tape and Reel; Width: 1.6mm; Max Operating Temperature: 125°C; Lead Free: Lead Free; Series: -; Number of Pins: 5; REACH SVHC: No SVHC; Max Output Voltage: 2.5V; Package Quantity: 1000; Tolerance: 0.05%; Min Input Voltage: 2.2V; Case/Package: SOT-23; Termination: SMD/SMT; Height: 1.02mm; Min Output Voltage: 2.5V; Reference Voltage: 2.5V; Max Output Current: 20mA; Nominal Supply Current: 60uA; Min Operating Temperature: -40°C; Operating Supply Current: 100uA; Part Number: LM4132AMF-2.0/NOPB; Supplier 1: Mouser; Supplier Part Number 1: 926-LM4132AMF20NOPB; ComponentLink1Description: Datasheet; ComponentLink1URL: https://www.ti.com/lit/gpn/lm4132-q1
footprint SOT-23-5
pins: 1 NC, 2 GND (power), 3 EN (in), 4 VIN (in), 5 VREF (out)

## NCV551SNxxT1G
designator D?, comment Package: TSOT-23-5  (hidden comment: NCV551SN33T1G)
Fixed 3.3V, 150mA Output, 12V max Input, 4uA Iq, LDO, TSOT-23-5; Manufacturer: Onsemi; Standard Lead Time: 53 Weeks; Component Status: Released; Replacement: NONE; Part Number: NCV551SN33T1G; Part Type: Power / Linear Regulator; Component Type: SMD; Temperature Range: -40°C ~ 125°C; ComponentLink1URL: https://eu.mouser.com/datasheet/2/308/NCP551_D-1812664.pdf; Supplier 1: Mouser; Supplier Part Number 1: 863-NCV551SN33T1G; Price: 0.23211881; ComponentLink1Description: Datasheet
footprint TSOT-23-5
pins: 1 VIN, 2 GND, 3 EN, 4 NC, 5 VOUT

## Pad
designator FP?, comment PAD-1.1mm  (value not drawn)  (no BOM)
1.1mm Pad for Plug-In or Receptacle; Manufacturer: NONE; Component Status: Released; Part Number: PAD-1.1mm; Component Type: PTH; Part Type: Pad; Temperature Range: NONE; ComponentLink1URL: NONE; Replacement: NONE; ComponentLink1Description: Datasheet; Price: NONE
footprint PAD-1.1mm
pins: 1

## RC0402DR-071KL
designator R??, comment Tolerance: ±0.5%  Package: 0402  (hidden comment: 1k)
1 kOhms ±0.5% 1/16W 0402 Thick Film Resistor; Part Number: RC0402DR-071KL; Manufacturer: Yageo; Power Rating: 0.062W; Voltage: 50V; Component Status: Released; Temperature Stability: ±100ppm/°C; Replacement: NONE; Component Type: SMD; Part Type: Thick Film; Temperature Range: -55°C ~ 155°C; ComponentLink1URL: https://www.yageo.com/upload/media/product/productsearch/datasheet/rchip/PYu-RC_Group_51_RoHS_L_12.pdf; Supplier 1: Digi-Key; Supplier Part Number 1: 13-RC0402DR-071KLTR-ND; Price: 0.015; ComponentLink1Description: Datasheet; Value: 1k
footprint R_ANY_CHIP_0402_MED
footprint R_ANY_CHIP_0402_HI
pins: 1, 2

## RC0402DR-071KL_1
designator R?, comment Tolerance: ±0.5%  Package: 0402  (hidden comment: 1k)
1 kOhms ±0.5% 1/16W 0402 Thick Film Resistor; Part Number: RC0402DR-071KL; Manufacturer: Yageo; Power Rating: 0.062W; Voltage: 50V; Component Status: Released; Temperature Stability: ±100ppm/°C; Replacement: NONE; Value: 1k; Component Type: SMD; Part Type: Thick Film; Temperature Range: -55°C ~ 155°C; ComponentLink1URL: https://www.yageo.com/upload/media/product/productsearch/datasheet/rchip/PYu-RC_Group_51_RoHS_L_12.pdf; Supplier 1: Digi-Key; Supplier Part Number 1: 13-RC0402DR-071KLTR-ND; Price: 0.015; ComponentLink1Description: Datasheet
footprint R_ANY_CHIP_0402_MED
footprint R_ANY_CHIP_0402_HI
pins: 1, 2

## RC0402FR-074K7L
designator R??, comment Tolerance: ±1%  Package: 0402  (hidden comment: 4.7k)
4.7 kOhms ±1% 1/16W 0402 Thick Film Resistor; Part Number: RC0402FR-074K7L; Manufacturer: Yageo; Power Rating: 0.062W; Voltage: 50V; Component Status: Released; Temperature Stability: ±100ppm/°C; Replacement: NONE; Component Type: SMD; Part Type: Thick Film; Temperature Range: -55°C ~ 155°C; ComponentLink1URL: https://eu.mouser.com/datasheet/2/447/PYu_RC_Group_51_RoHS_L_10-1664068.pdf; Price: 0.00065; ComponentLink1Description: Datasheet; Value: 4.7k
footprint R_ANY_CHIP_0402_MED
footprint R_ANY_CHIP_0402_HI
pins: 1, 2

## RC0402FR-0710KL
designator R?, comment Tolerance: ±1%  Package: 0402  (hidden comment: 10k)
10 kOhms ±1% 1/16W 0402 Thick Film Resistor; Part Number: RC0402FR-0710KL; Manufacturer: Yageo; Power Rating: 0.062W; Voltage: 50V; Temperature Stability: ±100ppm/°C; Replacement: NONE; Component Status: Released; Value: 10k; Component Type: SMD; Temperature Range: -55°C ~ 155°C; ComponentLink1URL: https://eu.mouser.com/datasheet/2/447/PYu_RC_Group_51_RoHS_L_10-1664068.pdf; Supplier 1: Digi-Key; Supplier Part Number 1: 311-10.0KLRTR-ND; ComponentLink1Description: Datasheet; Part Type: Thick Film; Price: 0,00065
footprint R_ANY_CHIP_0402_MED
footprint R_ANY_CHIP_0402_HI
pins: 1, 2

## RC0402FR-07430RL
designator R?, comment Tolerance: ±1%  Package: 0402  (hidden comment: 430)
430 Ohms ±1% 1/16W 0402 Thick Film Resistor; Part Number: RC0402FR-07430RL; Manufacturer: Yageo; Power Rating: 0.062W; Voltage: 50V; Component Status: Released; Temperature Stability: ±100ppm/°C; Replacement: NONE; Value: 430; Component Type: SMD; Part Type: Thick Film; Temperature Range: -55°C ~ 155°C; ComponentLink1URL: https://eu.mouser.com/datasheet/2/447/PYu_RC_Group_51_RoHS_L_11-1984063.pdf; Supplier 1: Digi-Key; Supplier Part Number 1: 311-430LRTR-ND; Price: 0.00065; ComponentLink1Description: Datasheet
footprint R_ANY_CHIP_0402_MED
footprint R_ANY_CHIP_0402_HI
pins: 1, 2

## RC0402JR-070RL
designator R?, comment Package: 0402  (hidden comment: 0)
0 Ohms Jumper ±5% 1/16W 0402 Thick Film Resistor; Part Number: RC0402JR-070RL; Manufacturer: Yageo; Power Rating: 0.062W; Voltage: 50V; Component Status: Released; Temperature Stability: NONE; Tolerance: ±5%; Value: 0; Component Type: SMD; Part Type: Thick Film; Temperature Range: -55°C ~ 155°C; ComponentLink1URL: https://eu.mouser.com/datasheet/2/447/PYu_RC_Group_51_RoHS_L_10-1664068.pdf; Supplier 1: Digi-Key; Supplier Part Number 1: 311-0.0JRTR-ND; Replacement: NONE; Price: 0.00045; ComponentLink1Description: Datasheet
footprint R_ANY_CHIP_0402_MED
footprint R_ANY_CHIP_0402_HI
footprint RLC_0402_MED_UNI
pins: 1, 2

## RC0603JR-0710RL
designator R?, comment Tolerance: ±5%  Package: 0603  (hidden comment: 10)
10 Ohms ±5%, 1/10W 0603 Thick Film Resistor; Part Number: RC0603JR-0710RL; Manufacturer: Yageo; Power Rating: 0.1W; Voltage: 75V; Component Status: Released; Temperature Stability: ±200ppm/°C; Replacement: NONE; Value: 10; Component Type: SMD; Part Type: Thick Film; Temperature Range: -55°C ~ 155°C; ComponentLink1URL: https://eu.mouser.com/datasheet/2/447/Yageo_03_18_2021_PYu_RC_Group_51_RoHS_L_11-2199992.pdf; Supplier 1: Mouser; Supplier Part Number 1: 603-RC0603JR-0710RL; Price: 0.0006; ComponentLink1Description: Datasheet
footprint R_ANY_CHIP_0603_MED
footprint R_ANY_CHIP_0603_HI
pins: 1, 2

## Resistor
designator R?, comment Tolerance: ±1%  Package: 1206  (hidden comment: 1M)
1 MOhms ±1%, 1/4W 1206 Thick Film Resistor; Part Number: CHV1206-FX-1004ELF; Manufacturer: Bourns; Power Rating: 0.25W; Voltage: 800V; Component Status: Released; Temperature Stability: ±100ppm/°C; Replacement: NONE; Value: 1M; Component Type: SMD; Part Type: Thick Film; Temperature Range: -55°C ~ 155°C; ComponentLink1URL: https://eu.mouser.com/datasheet/2/54/CHV-777595.pdf; Supplier 1: Mouser; Supplier Part Number 1: 652-CHV1206FX1004ELF; Price: 0.0173216; ComponentLink1Description: Datasheet
footprint CHV1206-Series
footprint R_ANY_CHIP_1206_MED
pins: 1, 2

## Resistor_1
designator R?, comment Tolerance: ±1%  Package: 0402  (hidden comment: 120)
120 Ohms ±1% 1/16W 0402 Thick Film Resistor; Part Number: RC0402FR-07120RL; Manufacturer: Yageo; Power Rating: 0.062W; Voltage: 50V; Component Status: Released; Temperature Stability: ±100ppm/°C; Replacement: NONE; Value: 120; Component Type: SMD; Part Type: Thick Film; Temperature Range: -55°C ~ 155°C; ComponentLink1URL: https://eu.mouser.com/datasheet/2/447/PYu_RC_Group_51_RoHS_L_10-1664068.pdf; Price: 0.00065; ComponentLink1Description: Datasheet
footprint R_ANY_CHIP_0402_MED
footprint R_ANY_CHIP_0402_HI
pins: 1, 2

## Resistor_2
designator R?, comment Tolerance: ±1%  Package: 0402  (hidden comment: 68k)
68 kOhms ±1% 1/16W 0402 Thick Film Resistor; Part Number: RC0402FR-0768KL; Manufacturer: Yageo; Power Rating: 0.062W; Voltage: 50V; Temperature Stability: ±100ppm/°C; Replacement: NONE; Component Status: Released; Value: 68k; Component Type: SMD; Temperature Range: -55°C ~ 155°C; ComponentLink1URL: https://eu.mouser.com/datasheet/2/447/PYu_RC_Group_51_RoHS_L_11-1984063.pdf; Supplier 1: Digi-Key; Supplier Part Number 1: 311-68.0KLRTR-ND; ComponentLink1Description: Datasheet; Part Type: Thick Film; Price: 0,00065051
footprint R_ANY_CHIP_0402_MED
footprint R_ANY_CHIP_0402_HI
pins: 1, 2

## Resistor_3
designator R?, comment Tolerance: ±1%  Package: 0402  (hidden comment: 160k)
160 kOhms ±1% 1/16W 0402 Thick Film Resistor; Part Number: RC0402FR-07160KL; Manufacturer: Yageo; Power Rating: 0.062W; Voltage: 50V; Temperature Stability: ±100ppm/°C; Replacement: NONE; Component Status: Released; Value: 160k; Component Type: SMD; Temperature Range: -55°C ~ 155°C; ComponentLink1URL: https://eu.mouser.com/datasheet/2/447/PYu_RC_Group_51_RoHS_L_11-1984063.pdf; ComponentLink1Description: Datasheet; Part Type: Thick Film; Price: 0,0005
footprint R_ANY_CHIP_0402_MED
footprint R_ANY_CHIP_0402_HI
pins: 1, 2

## Resistor_4
designator R?, comment Tolerance: ±1%  Package: 0402  (hidden comment: 30k)
30 kOhms ±1% 1/16W 0402 Thick Film Resistor; Part Number: RC0402FR-0730KL; Manufacturer: Yageo; Power Rating: 0.062W; Voltage: 50V; Temperature Stability: ±100ppm/°C; Replacement: NONE; Component Status: Released; Value: 30k; Component Type: SMD; Temperature Range: -55°C ~ 155°C; ComponentLink1URL: https://eu.mouser.com/datasheet/2/447/PYu_RC_Group_51_RoHS_L_11-1984063.pdf; Supplier 1: Digi-Key; Supplier Part Number 1: 311-30.0KLRTR-ND; ComponentLink1Description: Datasheet; Part Type: Thick Film; Price: 0,00065
footprint R_ANY_CHIP_0402_MED
footprint R_ANY_CHIP_0402_HI
pins: 1, 2

## Resistor_5
designator R?, comment Tolerance: ±1%  Package: 0402  (hidden comment: 22k)
22 kOhms ±1% 1/16W 0402 Thick Film Resistor; Part Number: RC0402FR-0722KL; Manufacturer: Yageo; Power Rating: 0.062W; Voltage: 50V; Temperature Stability: ±100ppm/°C; Replacement: NONE; Component Status: Released; Value: 22k; Component Type: SMD; Temperature Range: -55°C ~ 155°C; ComponentLink1URL: https://eu.mouser.com/datasheet/2/447/PYu_RC_Group_51_RoHS_L_10-1664068.pdf; ComponentLink1Description: Datasheet; Part Type: Thick Film; Price: 0,00065038
footprint R_ANY_CHIP_0402_MED
footprint R_ANY_CHIP_0402_HI
pins: 1, 2

## Resistor_6
designator R?, comment Tolerance: ±1%  Package: 0402  (hidden comment: 2.2k)
2.2 kOhms ±1% 1/16W 0402 Thick Film Resistor; Part Number: RC0402FR-072K2L; Manufacturer: Yageo; Power Rating: 0.062W; Voltage: 50V; Temperature Stability: ±100ppm/°C; Replacement: NONE; Component Status: Released; Value: 2.2k; Component Type: SMD; Temperature Range: -55°C ~ 155°C; ComponentLink1URL: https://eu.mouser.com/datasheet/2/447/PYu_RC_Group_51_RoHS_L_11-1984063.pdf; ComponentLink1Description: Datasheet; Part Type: Thick Film; Price: 0,00065
footprint R_ANY_CHIP_0402_MED
footprint R_ANY_CHIP_0402_HI
pins: 1, 2

## Resistor_7
designator R?, comment Tolerance: ±1%  Package: 0402  (hidden comment: 4.7k)
4.7 kOhms ±1% 1/16W 0402 Thick Film Resistor; Part Number: RC0402FR-074K7L; Manufacturer: Yageo; Power Rating: 0.062W; Voltage: 50V; Component Status: Released; Temperature Stability: ±100ppm/°C; Replacement: NONE; Value: 4.7k; Component Type: SMD; Part Type: Thick Film; Temperature Range: -55°C ~ 155°C; ComponentLink1URL: https://eu.mouser.com/datasheet/2/447/PYu_RC_Group_51_RoHS_L_10-1664068.pdf; Price: 0.00065; ComponentLink1Description: Datasheet
footprint R_ANY_CHIP_0402_MED
footprint R_ANY_CHIP_0402_HI
pins: 1, 2

## Resistor_8
designator R?, comment Tolerance: ±5%  Package: 0402  (hidden comment: 100k)  (no BOM)
100 kOhms ±5% 1/16W 0402 Thick Film Resistor; Part Number: RC0402JR-07100KL; Manufacturer: Yageo; Power Rating: 0.062W; Voltage: 50V; Component Status: Released; Temperature Stability: ±100ppm/°C; Replacement: NONE; Value: 100k; Component Type: SMD; Part Type: Thick Film; Temperature Range: -55°C ~ 155°C; ComponentLink1URL: https://eu.mouser.com/datasheet/2/447/PYu_RC_Group_51_RoHS_L_10-1664068.pdf; Supplier 1: Digi-Key; Supplier Part Number 1: 311-100KJRTR-ND; Price: 0.00054; ComponentLink1Description: Datasheet
footprint R_ANY_CHIP_0402_MED
footprint R_ANY_CHIP_0402_HI
pins: 1, 2

## SI1029X-T1-GE3
designator Q?
Transistor; Manufacturer_Name: Vishay; Datasheet Link: https://www.vishay.com/docs/71435/71435.pdf; Height: 0.6mm; Manufacturer_Part_Number: SI1029X-T1-GE3; Mouser Part Number: 781-SI1029X-T1-GE3; Mouser Price/Stock: https://www.mouser.co.uk/ProductDetail/Vishay-Semiconductors/SI1029X-T1-GE3?qs=tWM4QuTcS4WFBF4Fada7Qg%3D%3D
footprint SOTFL50P160X60-6N
pins: 1 S1, 2 G1, 3 D2, 4 S2, 5 G2, 6 D1

## SM712.TCT
designator VD?
TVS Diode 26V and 19V Clamp, 21A and 38A (8/20us) Ipp, SOT-23; Manufacturer: Semtech; Marking: 712; Component Status: Released; Standard Lead Time: 2 Weeks; Current: 21A, 38A; Voltage: 13.3V, 7.5V; Replacement: NONE; Part Number: SM712.TCT; Part Type: TVS / ESD Protection; Component Type: SMD; Package: SOT-23; Temperature Range: -55°C ~ 125°C; ComponentLink1URL: https://semtech.my.salesforce.com/sfc/p/#E0000000JelG/a/440000001MKW/f6pBKheIN2CeR0DxWdS3THuJ7nh4aKYltSzghsLP5iw; Supplier 1: Digi-Key; Supplier Part Number 1: SM712TR-ND; Price: 0,25; ComponentLink1Description: Datasheet
footprint SOT-23_MED
footprint SOT-23_HI
pins: 1, 2, 3

## SN65HVD72DRBR
designator DD?  Package: VDFN-8  (hidden comment: SN65HVD72DRBR)
3.3V 1/1 Transceiver Half RS422 Up to 250 kbps, RS485 With IEC ESD protection, SON-8; Manufacturer: Texas Instruments; Standard Lead Time: 16 Weeks; Component Status: Released; Replacement: NONE; Part Number: SN65HVD72DRBR; Part Type: Transceivers / RS-232/RS-422/RS-485; Component Type: SMD; Temperature Range: -40°C ~ 125°C; ComponentLink1URL: https://www.ti.com/lit/ds/symlink/sn65hvd72.pdf; Supplier 1: Digi-Key; Supplier Part Number 1: 296-40520-2-ND; Price: 0.709; ComponentLink1Description: Datasheet
footprint TI-SON8-65P300X100_HS
footprint TI-SON8-65P300X100_HS_AbsentVias
pins: 1 RO, 2 ~{RE}, 3 DE, 4 DI, 5 GND, 6 A, 7 B, 8 VCC, 9 TP
text: R; RE; D

## TCK402G
designator IC?
Integrated Circuit; Manufacturer_Name: Toshiba; Datasheet Link: https://toshiba.semicon-storage.com/info/docget.jsp?did=59174&prodName=TCK402G; Height: 0.59mm; Manufacturer_Part_Number: TCK402G
footprint BGA6C40P2X3_80X120X59
pins: A1 VGATE, A2 VIN, B1 VSRC, B2 GND, C1 DIS, C2 VCT

## Test-Point-SMD-1
designator TP?, comment LED_LINK  (value not drawn)  (no BOM)
Test Point SMD Pad 1.0mm/1.5mm/2mm; Part Number: TP-PAD-SMD; Replacement: NONE; Part Type: Test Point; Component Type: SMD; Temperature Range: NONE; ComponentLink1URL: NONE; ComponentLink1Description: Datasheet
footprint TP_SMD_1mm
footprint TP_SMD_1.5mm
footprint TP_SMD_2mm
footprint TP_SMD_2.8mm
pins: 1

## TI-OPA-8_1
designator U?, comment OPA350UA
High-Speed, Single-Supply, Rail-to-Rail Operational Amplifier MicroAmplifier(TM) Series, 2.7 to 5.5 V, -40 to 85 degC, 8-pin SOIC (D8), Green (RoHS & no Sb/Br); Manufacturer: Texas Instruments; IIB(Max)(pA): 10; Iq per channel(Max)(mA): 8.5; Number of Channels: 1; CMRR(Min)(dB): 66; Slew Rate(Typ)(V/us): 22; Total Supply Voltage(Max)(+5V is 5, +/-5V is 10): 5.5; Sub Family: Low Input Bias Current Amp (<=10pA), Low Offset Voltage Amplifier (<=500uV), Low Supply Voltage Amplifier (<=2.7V), Precision Amplifier; Offset Drift(Typ)(uV/C): 4; Total Supply Voltage(Min)(+5V is 5, +/-5V is 10): 2.7; Vn at 1kHz(Typ)(nV/rtHz): 18; PackageReference: D0008A; PackageDescription: 8-Pin Plastic Small Outline, Body 4.9 x 3.9 mm, Pitch 1.27 mm; Code_JEDEC: MS-012; Eco-Plan: Green (RoHS & no Sb/Br); DatasheetVersion: SBOS099C; Vio (25C)(Max)(mV): 1; ComponentLink1URL: http://www.ti.com/; ComponentLink3URL: http://www.ti.com/litv/pdf/msoi002j; PackageVersion: 4040047-3/M, 06/2011; ComponentLink3Description: Package Specification; ComponentLink2URL: http://www.ti.com/general/docs/lit/getliterature.tsp?genericPartNumber=OPA350&fileType=pdf; PartNumber: OPA350UA; ComponentLink2Description: Datasheet; ComponentLink1Description: Manufacturer URL; Mounting Technology: Surface Mount
footprint D0008A_M (SOIC, 8-Leads, Body 5x4mm, Pitch 1.27mm, IPC Low Density)
footprint D0008A_N (SOIC, 8-Leads, Body 5x4mm, Pitch 1.27mm, IPC Medium Density)
footprint D0008A_L (SOIC, 8-Leads, Body 5x4mm, Pitch 1.27mm, IPC High Density)
part A pins: 2 IN- (in), 3 IN+ (in), 4 V- (power), 6 OUT (out), 7 V+ (power)
part B pins: 1 NC, 5 NC, 8 NC

## TP-PAD-SMD
designator TP?, comment LED_LINK  (value not drawn)  (no BOM)
Test Point SMD Pad 1.0mm/1.5mm/2mm; Part Number: TP-PAD-SMD; Part Type: Test Point; Component Type: SMD
footprint TP_SMD_1mm
footprint TP_SMD_1.5mm
footprint TP_SMD_2mm
footprint TP_SMD_2.8mm
pins: 1

## TPS54360B
designator DD?, comment Package: SOIC-8  (hidden comment: TPS54360BDDAR)
60V Input, 3.5A, Step-Down DC/DC Converter With Eco-Mode, SOIC-8 EP; Manufacturer: Texas Instruments; Standard Lead Time: 16 Weeks; Replacement: NONE; Component Status: Released; Part Number: TPS54360BDDAR; Part Type: Power / DC-DC / Buck; Component Type: SMD; Temperature Range: -40°C ~ 150°C; ComponentLink1URL: https://www.ti.com/lit/ds/symlink/tps54360b.pdf; Supplier 1: Digi-Key; Supplier Part Number 1: 296-TPS54360BDDARTR-ND; ComponentLink1Description: Datasheet; Price: 5,11
footprint SOIC127P620X170_HS-9N
pins: 1 BOOT, 2 VIN, 3 EN, 4 RT/CLK, 5 FB, 6 COMP, 7 GND, 8 SW, 9 PowPad

## WSHP2818R0100FEA
designator R?, comment 10m 1%, 2818
Resistor; Manufacturer_Name: Vishay; Manufacturer_Part_Number: WSHP2818R0100FEA; Datasheet Link: http://www.vishay.com/docs/30347/wshp2818.pdf; Height: 1mm; Mouser Part Number: 71-WSHP2818R0100FEA; Mouser Price/Stock: https://www.mouser.co.uk/ProductDetail/Vishay-Dale/WSHP2818R0100FEA?qs=WY0B%252Bpw29jNppYK03UGNJA%3D%3D; Arrow Part Number: WSHP2818R0100FEA; Arrow Price/Stock: https://www.arrow.com/en/products/wshp2818r0100fea/vishay?region=nac
footprint WSHP28181L000FEB
pins: 1, 2

## WSHP2818R0100FEA_1
designator R??, comment Tolerance: ±1%  Package: 2818  (hidden comment: 10m)
Current Sense Resistors - SMD 10W .010ohms 1%; Part Number: WSHP2818R0100FEA; Manufacturer: Vishay; Temperature Stability: ±100ppm/°C; Replacement: NONE; Component Status: Released; Component Type: SMD; Power Rating: 10W; Temperature Range: -55°C ~ 155°C; ComponentLink1URL: https://www.vishay.com/doc?30347; Supplier 1: Mouser; Supplier Part Number 1: 71-WSHP2818R0100FEA; ComponentLink1Description: Datasheet; Part Type: Thick Film; Value: 10m
footprint WSHP2818
pins: 1, 2